# Altium integrated library Texas Instruments Interface Equalizer and Redriver.IntLib: 53 symbols (part 2 of 4)
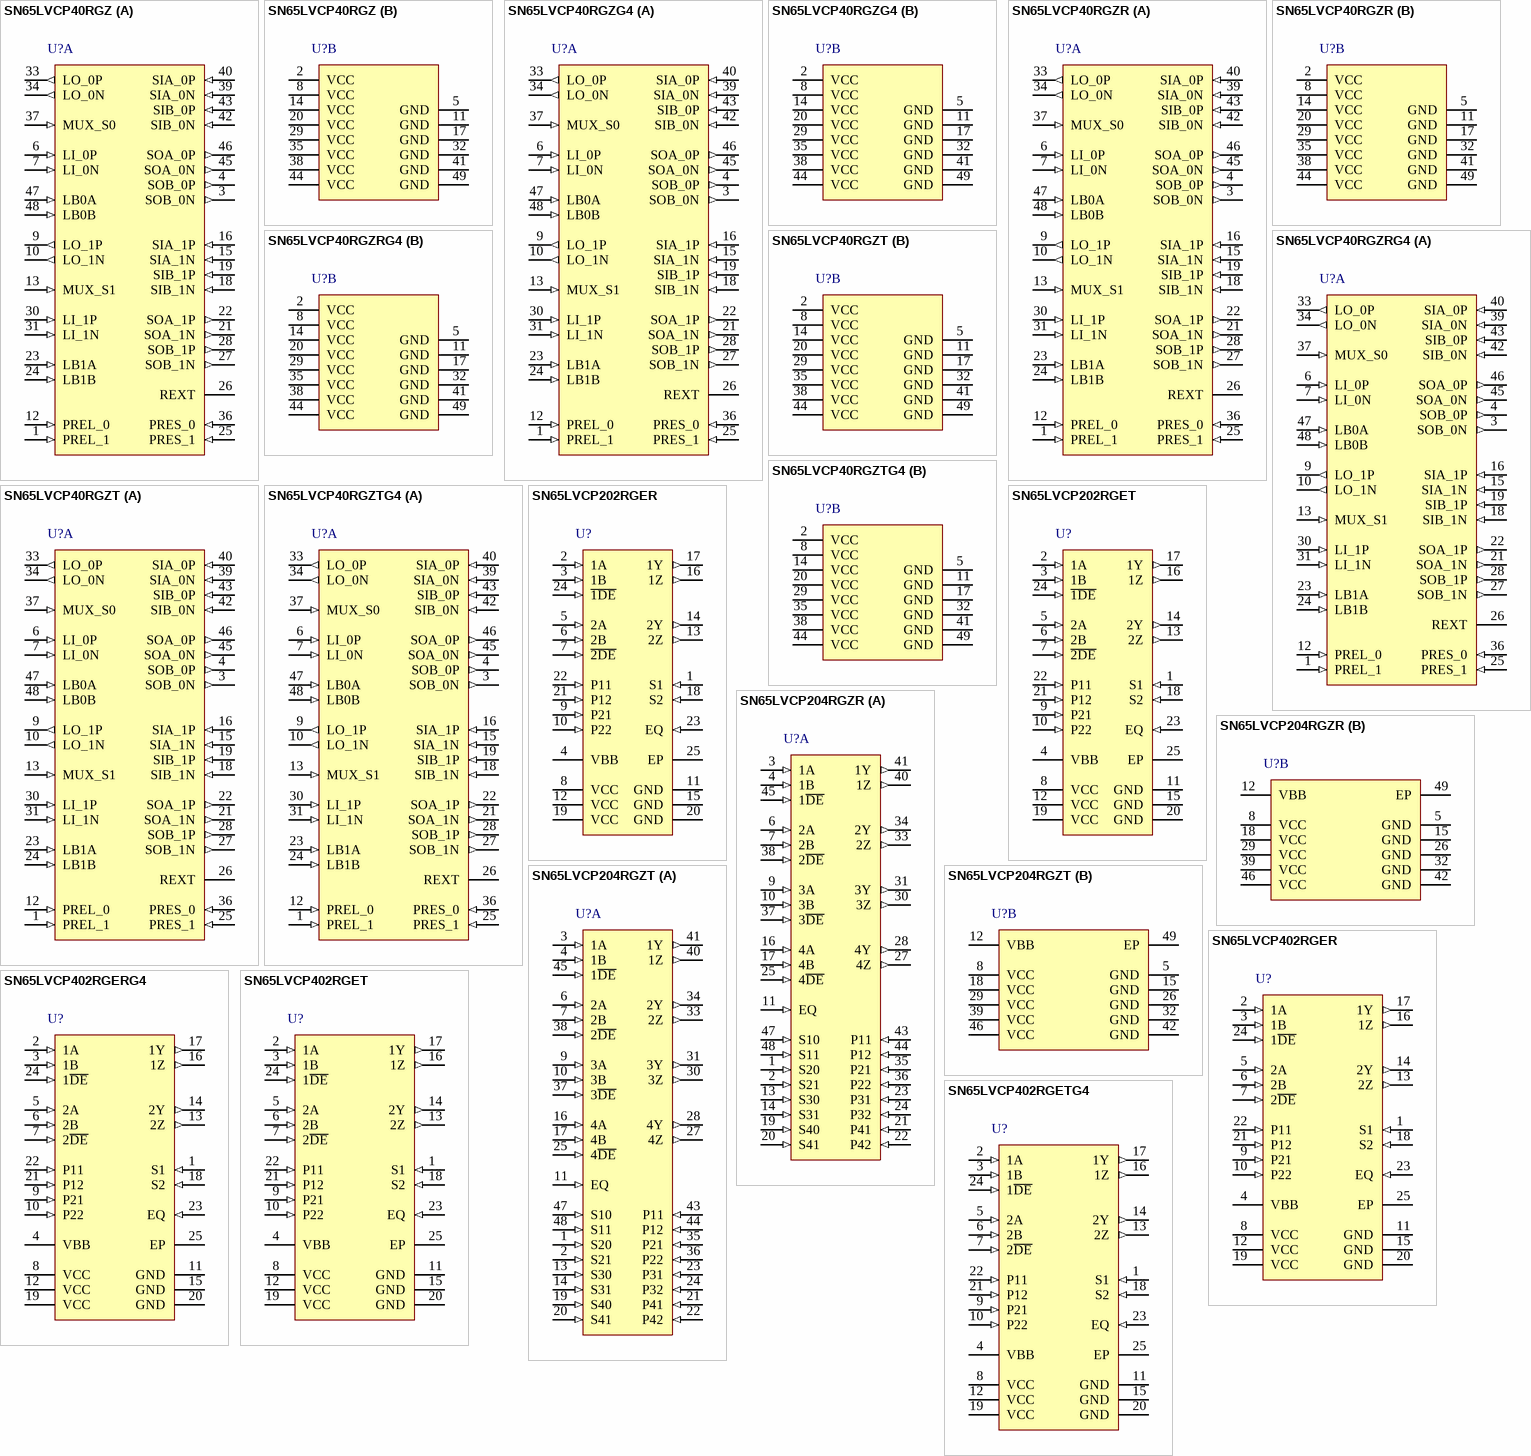
[diagram p3: symbols SN65LVCP40RGZ to SN65LVCP402RGETG4]

## SN65LVCP402RGETG4
designator U?
2 x 2 Gigabit Crosspoint Switch, 2 TX / 2 RX, 3.3V, -40 to 85 degC, 24-Pin VQFN (RGE), Green (RoHS & no Sb/Br); PartNumber: SN65LVCP402RGETG4; Manufacturer: Texas Instruments; ICC(Max)(mA): 110; IN SigCon: EQ; OUT SigCon: Pre-E; ESD HBM(kV): 3; DatasheetVersion: SLLS699A; PackageVersion: revG, Jul-2011; PackageReference: RGE24-2450X2450TP; PackageDescription: 24-Pin Plastic Quad Flatpack No-Lead, 4 x 4 mm Body, 0.5 mm Pitch; Mounting Technology: Surface Mount; Eco-Plan: Green (RoHS & no Sb/Br); Function: Crosspoint; Code_JEDEC: MO-220; ComponentLink1Description: Datasheet; ComponentLink1URL: http://www.ti.com/general/docs/lit/getliterature.tsp?genericPartNumber=SN65LVCP402&fileType=pdf; ComponentLink2Description: Package Specification; ComponentLink2URL: http://www.ti.com/litv/pdf/mpqf124f
footprint RGE24-2450X2450TP (QFN, 24-Leads, Body 4x4mm, Pitch 0.5mm, Thermal Pad 2.45x2.45mm, TI Recommended)
pins: 1 S1 (in) "Switching Selection; LVTTL", 2 1A (in) "Line Side Differential Inputs CML compatible", 3 1B (in) "Line Side Differential Inputs CML compatible", 4 VBB (power) "Receiver input biasing voltage.For ac coupling, VBB should be left floating for optimal bias value. For dc coupling, VBB can driven to change the common mode. [see datasheet]", 5 2A (in) "Line Side Differential Inputs CML compatible", 6 2B (in) "Line Side Differential Inputs CML compatible", 7 2~{DE} (in) "Data Enable; Active Low; LVTTL;When not enabled the output is in 3-STATE mode for power savings", 8 VCC (power) "Power Supply 3.3 V +/-5%", 9 P21 (in) "Output Preemphasis Control; LVTTL", 10 P22 (in) "Output Preemphasis Control; LVTTL", 11 GND (power) "ground", 12 VCC (power) "Power Supply 3.3 V +/-5%", 13 2Z (out) "Switch Side Differential Outputs. VML", 14 2Y (out) "Switch Side Differential Outputs. VML", 15 GND (power) "ground", 16 1Z (out) "Switch Side Differential Outputs. VML", 17 1Y (out) "Switch Side Differential Outputs. VML", 18 S2 (in) "Switching Selection; LVTTL", 19 VCC (power) "Power Supply 3.3 V +/-5%", 20 GND (power) "ground", 21 P12 (in) "Output Preemphasis Control; LVTTL", 22 P11 (in) "Output Preemphasis Control; LVTTL", 23 EQ (in) "EQ=1(default) is for the 5 dB setting; EQ=0 is for the 12 dB setting", 24 1~{DE} (in) "Data Enable; Active Low; LVTTL;When not enabled the output is in 3-STATE mode for power savings", 25 EP (power) "The ground center pad of the package must be connected to  Thermal Pad Thermal Pad  GND plane with thermal vias."

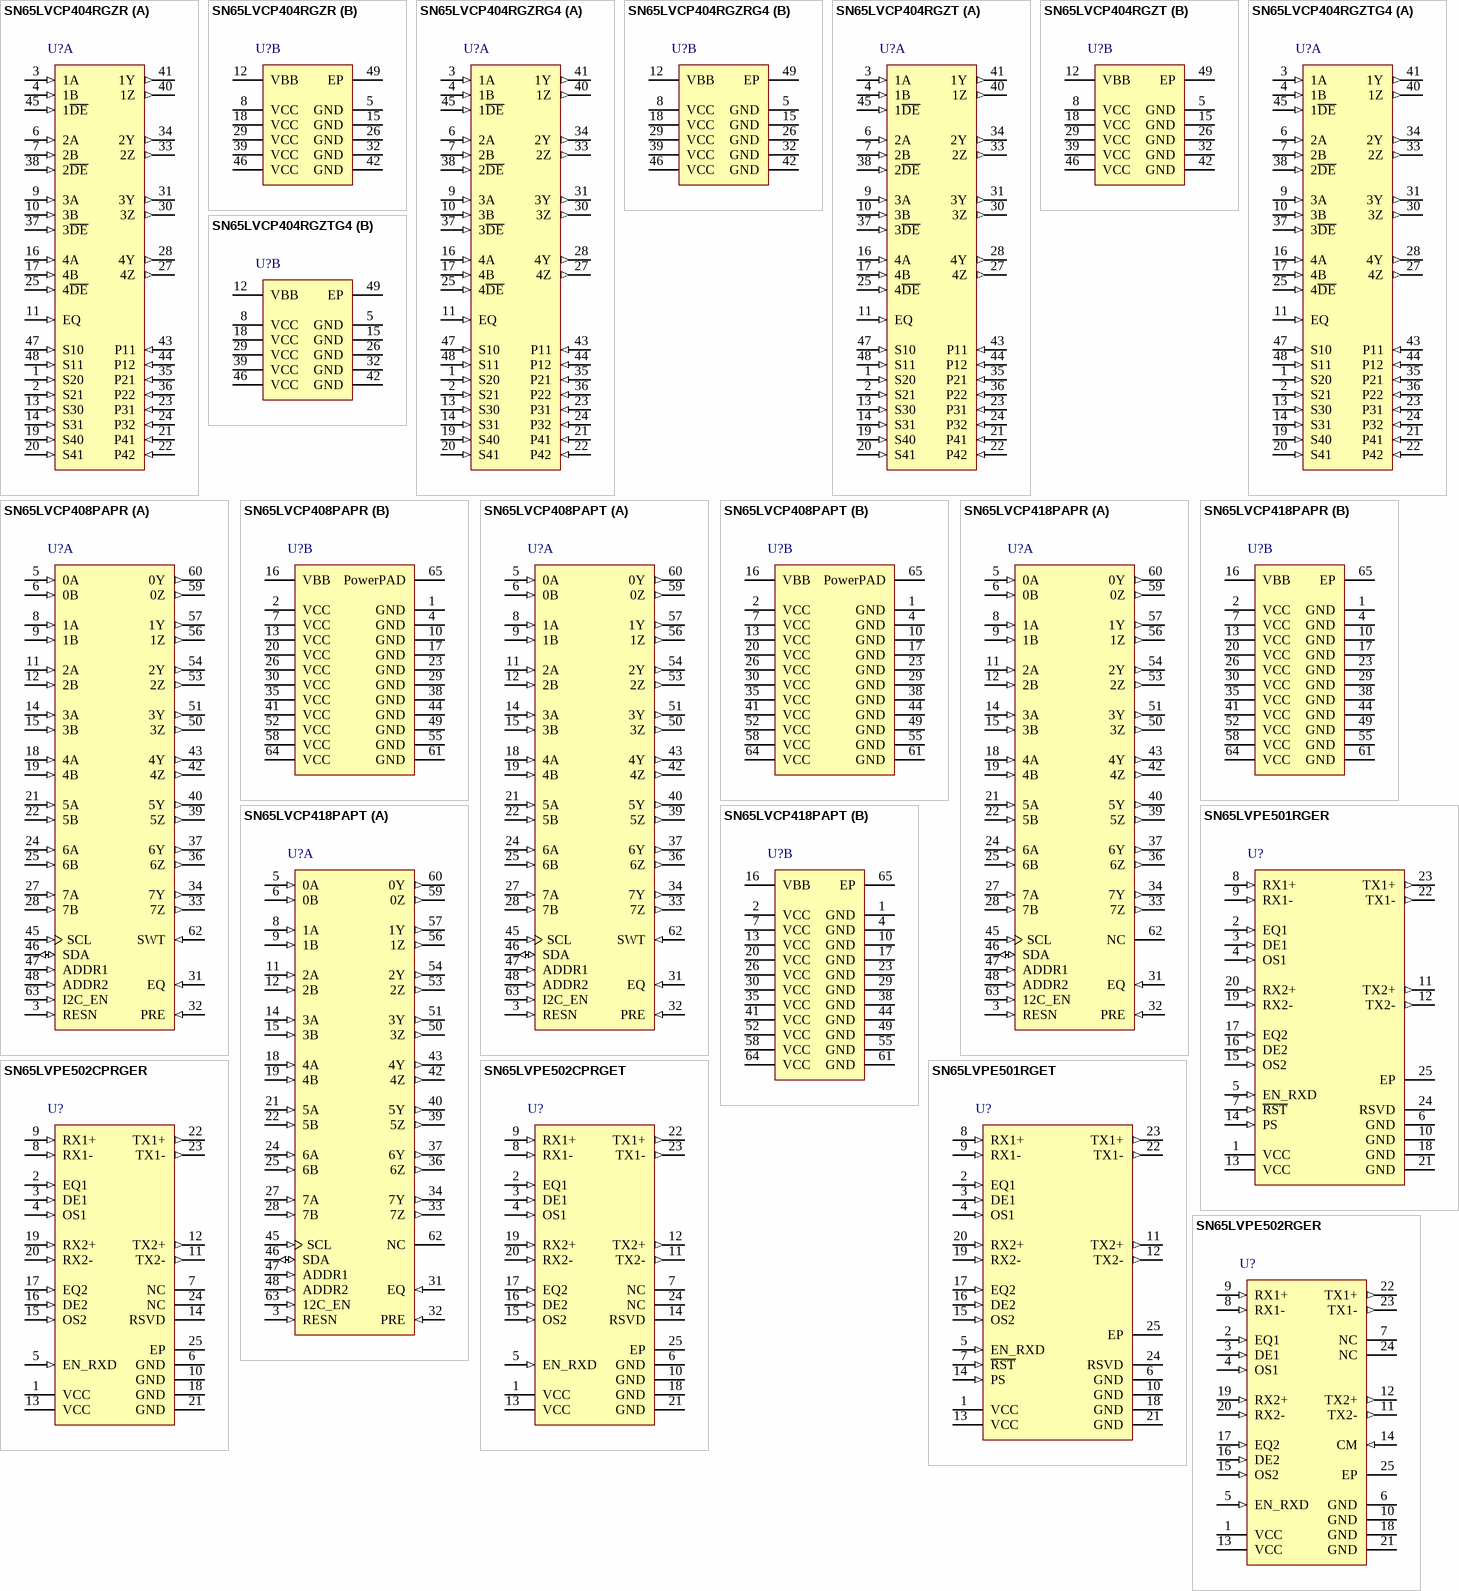
[diagram p1: symbols SN65LVCP404RGZR to SN65LVPE502RGER]

## SN65LVCP404RGZR
designator U?
4 x 4 LVDS Crosspoint Switch, -40 to 85 degC, 48-Pin VQFN (RGZ), Green (RoHS & no Sb/Br); PartNumber: SN65LVCP404RGZR; Manufacturer: Texas Instruments; ICC(Max)(mA): 220; IN SigCon: EQ; OUT SigCon: Pre-E; ESD HBM(kV): 3; DatasheetVersion: SLLS913; PackageVersion: revF, Jun-2011; PackageReference: RGZ48-4100X4100TP; PackageDescription: 48-Pin Plastic Quad Flatpack No-Lead, 7 x 7 mm Body, 0.5 mm Pitch; Mounting Technology: Surface Mount; Eco-Plan: Green (RoHS & no Sb/Br); Function: Crosspoint; Code_JEDEC: MO-220; ComponentLink1Description: Datasheet; ComponentLink1URL: http://www.ti.com/general/docs/lit/getliterature.tsp?genericPartNumber=SN65LVCP404&fileType=pdf; ComponentLink2Description: Package Specification; ComponentLink2URL: http://www.ti.com/lit/ml/mpqf123e/mpqf123e.pdf
footprint RGZ48-4100X4100TP (QFN, 48-Leads, Body 7x7mm, Pitch 0.5mm, Thermal Pad 5.15x5.15mm, TI Recommended)
part A pins: 1 S20 (in) "Switching Selection; LVTTL", 2 S21 (in) "Switching Selection; LVTTL", 3 1A (in) "Line Side Differential Inputs CML compatible", 4 1B (in) "Line Side Differential Inputs CML compatible", 6 2A (in) "Line Side Differential Inputs CML compatible", 7 2B (in) "Line Side Differential Inputs CML compatible", 9 3A (in) "Line Side Differential Inputs CML compatible", 10 3B (in) "Line Side Differential Inputs CML compatible", 11 EQ (in) "EQ = 1 (default) is for the 5 dB setting, EQ = 0 is for the 12 dB setting", 13 S30 (in) "Switching Selection; LVTTL", 14 S31 (in) "Switching Selection; LVTTL", 16 4A (in) "Line Side Differential Inputs CML compatible", 17 4B (in) "Line Side Differential Inputs CML compatible", 19 S40 (in) "Switching Selection; LVTTL", 20 S41 (in) "Switching Selection; LVTTL", 21 P41 (in) "Output Preemphasis Control; LVTTL", 22 P42 (in) "Output Preemphasis Control; LVTTL", 23 P31 (in) "Output Preemphasis Control; LVTTL", 24 P32 (in) "Output Preemphasis Control; LVTTL", 25 4~{DE} (in) "Data Enable; Active Low; LVTTL; When not enabled the ouput is in 3-STATE mode for power savings", 27 4Z (out) "Switch Side Differential Outputs. VML", 28 4Y (out) "Switch Side Differential Outputs. VML", 30 3Z (out) "Switch Side Differential Outputs. VML", 31 3Y (out) "Switch Side Differential Outputs. VML", 33 2Z (out) "Switch Side Differential Outputs. VML", 34 2Y (out) "Switch Side Differential Outputs. VML", 35 P21 (in) "Output Preemphasis Control; LVTTL", 36 P22 (in) "Output Preemphasis Control; LVTTL", 37 3~{DE} (in) "Data Enable; Active Low; LVTTL; When not enabled the ouput is in 3-STATE mode for power savings", 38 2~{DE} (in) "Data Enable; Active Low; LVTTL; When not enabled the ouput is in 3-STATE mode for power savings", 40 1Z (out) "Switch Side Differential Outputs. VML", 41 1Y (out) "Switch Side Differential Outputs. VML", 43 P11 (in) "Output Preemphasis Control; LVTTL", 44 P12 (in) "Output Preemphasis Control; LVTTL", 45 1~{DE} (in) "Data Enable; Active Low; LVTTL; When not enabled the ouput is in 3-STATE mode for power savings", 47 S10 (in) "Switching Selection; LVTTL", 48 S11 (in) "Switching Selection; LVTTL"
part B pins: 5 GND (power) "Ground", 8 VCC (power) "Power Supply 3.3v +/-5%", 12 VBB (power) "Receiver input biasing voltage. For ac coupling, VBB should be left floating for optimal bias value. For dc coupling, VBB can driven to change the common mode. [see datasheet]", 15 GND (power) "Ground", 18 VCC (power) "Power Supply 3.3v +/-5%", 26 GND (power) "Ground", 29 VCC (power) "Power Supply 3.3v +/-5%", 32 GND (power) "Ground", 39 VCC (power) "Power Supply 3.3v +/-5%", 42 GND (power) "Ground", 46 VCC (power) "Power Supply 3.3v +/-5%", 49 EP (power) "The ground center pad of the package must be connected to GND plane."

## SN65LVCP404RGZRG4
designator U?
4 x 4 LVDS Crosspoint Switch, -40 to 85 degC, 48-Pin VQFN (RGZ), Green (RoHS & no Sb/Br); PartNumber: SN65LVCP404RGZRG4; Manufacturer: Texas Instruments; ICC(Max)(mA): 220; IN SigCon: EQ; OUT SigCon: Pre-E; ESD HBM(kV): 3; DatasheetVersion: SLLS913; PackageVersion: revF, Jun-2011; PackageReference: RGZ48-4100X4100TP; PackageDescription: 48-Pin Plastic Quad Flatpack No-Lead, 7 x 7 mm Body, 0.5 mm Pitch; Mounting Technology: Surface Mount; Eco-Plan: Green (RoHS & no Sb/Br); Function: Crosspoint; Code_JEDEC: MO-220; ComponentLink1Description: Datasheet; ComponentLink1URL: http://www.ti.com/general/docs/lit/getliterature.tsp?genericPartNumber=SN65LVCP404&fileType=pdf; ComponentLink2Description: Package Specification; ComponentLink2URL: http://www.ti.com/lit/ml/mpqf123e/mpqf123e.pdf
footprint RGZ48-4100X4100TP (QFN, 48-Leads, Body 7x7mm, Pitch 0.5mm, Thermal Pad 5.15x5.15mm, TI Recommended)
part A pins: 1 S20 (in) "Switching Selection; LVTTL", 2 S21 (in) "Switching Selection; LVTTL", 3 1A (in) "Line Side Differential Inputs CML compatible", 4 1B (in) "Line Side Differential Inputs CML compatible", 6 2A (in) "Line Side Differential Inputs CML compatible", 7 2B (in) "Line Side Differential Inputs CML compatible", 9 3A (in) "Line Side Differential Inputs CML compatible", 10 3B (in) "Line Side Differential Inputs CML compatible", 11 EQ (in) "EQ = 1 (default) is for the 5 dB setting, EQ = 0 is for the 12 dB setting", 13 S30 (in) "Switching Selection; LVTTL", 14 S31 (in) "Switching Selection; LVTTL", 16 4A (in) "Line Side Differential Inputs CML compatible", 17 4B (in) "Line Side Differential Inputs CML compatible", 19 S40 (in) "Switching Selection; LVTTL", 20 S41 (in) "Switching Selection; LVTTL", 21 P41 (in) "Output Preemphasis Control; LVTTL", 22 P42 (in) "Output Preemphasis Control; LVTTL", 23 P31 (in) "Output Preemphasis Control; LVTTL", 24 P32 (in) "Output Preemphasis Control; LVTTL", 25 4~{DE} (in) "Data Enable; Active Low; LVTTL; When not enabled the ouput is in 3-STATE mode for power savings", 27 4Z (out) "Switch Side Differential Outputs. VML", 28 4Y (out) "Switch Side Differential Outputs. VML", 30 3Z (out) "Switch Side Differential Outputs. VML", 31 3Y (out) "Switch Side Differential Outputs. VML", 33 2Z (out) "Switch Side Differential Outputs. VML", 34 2Y (out) "Switch Side Differential Outputs. VML", 35 P21 (in) "Output Preemphasis Control; LVTTL", 36 P22 (in) "Output Preemphasis Control; LVTTL", 37 3~{DE} (in) "Data Enable; Active Low; LVTTL; When not enabled the ouput is in 3-STATE mode for power savings", 38 2~{DE} (in) "Data Enable; Active Low; LVTTL; When not enabled the ouput is in 3-STATE mode for power savings", 40 1Z (out) "Switch Side Differential Outputs. VML", 41 1Y (out) "Switch Side Differential Outputs. VML", 43 P11 (in) "Output Preemphasis Control; LVTTL", 44 P12 (in) "Output Preemphasis Control; LVTTL", 45 1~{DE} (in) "Data Enable; Active Low; LVTTL; When not enabled the ouput is in 3-STATE mode for power savings", 47 S10 (in) "Switching Selection; LVTTL", 48 S11 (in) "Switching Selection; LVTTL"
part B pins: 5 GND (power) "Ground", 8 VCC (power) "Power Supply 3.3v +/-5%", 12 VBB (power) "Receiver input biasing voltage. For ac coupling, VBB should be left floating for optimal bias value. For dc coupling, VBB can driven to change the common mode. [see datasheet]", 15 GND (power) "Ground", 18 VCC (power) "Power Supply 3.3v +/-5%", 26 GND (power) "Ground", 29 VCC (power) "Power Supply 3.3v +/-5%", 32 GND (power) "Ground", 39 VCC (power) "Power Supply 3.3v +/-5%", 42 GND (power) "Ground", 46 VCC (power) "Power Supply 3.3v +/-5%", 49 EP (power) "The ground center pad of the package must be connected to GND plane."

## SN65LVCP404RGZT
designator U?
Gigabit 4 x 4 Crosspoint Switch, -40 to 85 degC, 48-Pin VQFN (RGZ), Green (RoHS & no Sb/Br); PartNumber: SN65LVCP404RGZT; Manufacturer: Texas Instruments; ICC(Max)(mA): 220; IN SigCon: EQ; OUT SigCon: Pre-E; ESD HBM(kV): 3; DatasheetVersion: SLLS913; PackageVersion: revF, Jun-2011; PackageReference: RGZ48-4100X4100TP; PackageDescription: 48-Pin Plastic Quad Flatpack No-Lead, 7 x 7 mm Body, 0.5 mm Pitch; Mounting Technology: Surface Mount; Eco-Plan: Green (RoHS & no Sb/Br); Function: Crosspoint; Code_JEDEC: MO-220; ComponentLink1Description: Datasheet; ComponentLink1URL: http://www.ti.com/general/docs/lit/getliterature.tsp?genericPartNumber=SN65LVCP404&fileType=pdf; ComponentLink2Description: Package Specification; ComponentLink2URL: http://www.ti.com/lit/ml/mpqf123e/mpqf123e.pdf
footprint RGZ48-4100X4100TP (QFN, 48-Leads, Body 7x7mm, Pitch 0.5mm, Thermal Pad 5.15x5.15mm, TI Recommended)
part A pins: 1 S20 (in) "Switching Selection; LVTTL", 2 S21 (in) "Switching Selection; LVTTL", 3 1A (in) "Line Side Differential Inputs CML compatible", 4 1B (in) "Line Side Differential Inputs CML compatible", 6 2A (in) "Line Side Differential Inputs CML compatible", 7 2B (in) "Line Side Differential Inputs CML compatible", 9 3A (in) "Line Side Differential Inputs CML compatible", 10 3B (in) "Line Side Differential Inputs CML compatible", 11 EQ (in) "EQ = 1 (default) is for the 5 dB setting, EQ = 0 is for the 12 dB setting", 13 S30 (in) "Switching Selection; LVTTL", 14 S31 (in) "Switching Selection; LVTTL", 16 4A (in) "Line Side Differential Inputs CML compatible", 17 4B (in) "Line Side Differential Inputs CML compatible", 19 S40 (in) "Switching Selection; LVTTL", 20 S41 (in) "Switching Selection; LVTTL", 21 P41 (in) "Output Preemphasis Control; LVTTL", 22 P42 (in) "Output Preemphasis Control; LVTTL", 23 P31 (in) "Output Preemphasis Control; LVTTL", 24 P32 (in) "Output Preemphasis Control; LVTTL", 25 4~{DE} (in) "Data Enable; Active Low; LVTTL; When not enabled the ouput is in 3-STATE mode for power savings", 27 4Z (out) "Switch Side Differential Outputs. VML", 28 4Y (out) "Switch Side Differential Outputs. VML", 30 3Z (out) "Switch Side Differential Outputs. VML", 31 3Y (out) "Switch Side Differential Outputs. VML", 33 2Z (out) "Switch Side Differential Outputs. VML", 34 2Y (out) "Switch Side Differential Outputs. VML", 35 P21 (in) "Output Preemphasis Control; LVTTL", 36 P22 (in) "Output Preemphasis Control; LVTTL", 37 3~{DE} (in) "Data Enable; Active Low; LVTTL; When not enabled the ouput is in 3-STATE mode for power savings", 38 2~{DE} (in) "Data Enable; Active Low; LVTTL; When not enabled the ouput is in 3-STATE mode for power savings", 40 1Z (out) "Switch Side Differential Outputs. VML", 41 1Y (out) "Switch Side Differential Outputs. VML", 43 P11 (in) "Output Preemphasis Control; LVTTL", 44 P12 (in) "Output Preemphasis Control; LVTTL", 45 1~{DE} (in) "Data Enable; Active Low; LVTTL; When not enabled the ouput is in 3-STATE mode for power savings", 47 S10 (in) "Switching Selection; LVTTL", 48 S11 (in) "Switching Selection; LVTTL"
part B pins: 5 GND (power) "Ground", 8 VCC (power) "Power Supply 3.3v +/-5%", 12 VBB (power) "Receiver input biasing voltage. For ac coupling, VBB should be left floating for optimal bias value. For dc coupling, VBB can driven to change the common mode. [see datasheet]", 15 GND (power) "Ground", 18 VCC (power) "Power Supply 3.3v +/-5%", 26 GND (power) "Ground", 29 VCC (power) "Power Supply 3.3v +/-5%", 32 GND (power) "Ground", 39 VCC (power) "Power Supply 3.3v +/-5%", 42 GND (power) "Ground", 46 VCC (power) "Power Supply 3.3v +/-5%", 49 EP (power) "The ground center pad of the package must be connected to GND plane."

## SN65LVCP404RGZTG4
designator U?
Gigabit 4 x 4 Crosspoint Switch, -40 to 85 degC, 48-Pin VQFN (RGZ), Green (RoHS & no Sb/Br); PartNumber: SN65LVCP404RGZTG4; Manufacturer: Texas Instruments; ICC(Max)(mA): 220; IN SigCon: EQ; OUT SigCon: Pre-E; ESD HBM(kV): 3; DatasheetVersion: SLLS913; PackageVersion: revF, Jun-2011; PackageReference: RGZ48-4100X4100TP; PackageDescription: 48-Pin Plastic Quad Flatpack No-Lead, 7 x 7 mm Body, 0.5 mm Pitch; Mounting Technology: Surface Mount; Eco-Plan: Green (RoHS & no Sb/Br); Function: Crosspoint; Code_JEDEC: MO-220; ComponentLink1Description: Datasheet; ComponentLink1URL: http://www.ti.com/general/docs/lit/getliterature.tsp?genericPartNumber=SN65LVCP404&fileType=pdf; ComponentLink2Description: Package Specification; ComponentLink2URL: http://www.ti.com/lit/ml/mpqf123e/mpqf123e.pdf
footprint RGZ48-4100X4100TP (QFN, 48-Leads, Body 7x7mm, Pitch 0.5mm, Thermal Pad 5.15x5.15mm, TI Recommended)
part A pins: 1 S20 (in) "Switching Selection; LVTTL", 2 S21 (in) "Switching Selection; LVTTL", 3 1A (in) "Line Side Differential Inputs CML compatible", 4 1B (in) "Line Side Differential Inputs CML compatible", 6 2A (in) "Line Side Differential Inputs CML compatible", 7 2B (in) "Line Side Differential Inputs CML compatible", 9 3A (in) "Line Side Differential Inputs CML compatible", 10 3B (in) "Line Side Differential Inputs CML compatible", 11 EQ (in) "EQ = 1 (default) is for the 5 dB setting, EQ = 0 is for the 12 dB setting", 13 S30 (in) "Switching Selection; LVTTL", 14 S31 (in) "Switching Selection; LVTTL", 16 4A (in) "Line Side Differential Inputs CML compatible", 17 4B (in) "Line Side Differential Inputs CML compatible", 19 S40 (in) "Switching Selection; LVTTL", 20 S41 (in) "Switching Selection; LVTTL", 21 P41 (in) "Output Preemphasis Control; LVTTL", 22 P42 (in) "Output Preemphasis Control; LVTTL", 23 P31 (in) "Output Preemphasis Control; LVTTL", 24 P32 (in) "Output Preemphasis Control; LVTTL", 25 4~{DE} (in) "Data Enable; Active Low; LVTTL; When not enabled the ouput is in 3-STATE mode for power savings", 27 4Z (out) "Switch Side Differential Outputs. VML", 28 4Y (out) "Switch Side Differential Outputs. VML", 30 3Z (out) "Switch Side Differential Outputs. VML", 31 3Y (out) "Switch Side Differential Outputs. VML", 33 2Z (out) "Switch Side Differential Outputs. VML", 34 2Y (out) "Switch Side Differential Outputs. VML", 35 P21 (in) "Output Preemphasis Control; LVTTL", 36 P22 (in) "Output Preemphasis Control; LVTTL", 37 3~{DE} (in) "Data Enable; Active Low; LVTTL; When not enabled the ouput is in 3-STATE mode for power savings", 38 2~{DE} (in) "Data Enable; Active Low; LVTTL; When not enabled the ouput is in 3-STATE mode for power savings", 40 1Z (out) "Switch Side Differential Outputs. VML", 41 1Y (out) "Switch Side Differential Outputs. VML", 43 P11 (in) "Output Preemphasis Control; LVTTL", 44 P12 (in) "Output Preemphasis Control; LVTTL", 45 1~{DE} (in) "Data Enable; Active Low; LVTTL; When not enabled the ouput is in 3-STATE mode for power savings", 47 S10 (in) "Switching Selection; LVTTL", 48 S11 (in) "Switching Selection; LVTTL"
part B pins: 5 GND (power) "Ground", 8 VCC (power) "Power Supply 3.3v +/-5%", 12 VBB (power) "Receiver input biasing voltage. For ac coupling, VBB should be left floating for optimal bias value. For dc coupling, VBB can driven to change the common mode. [see datasheet]", 15 GND (power) "Ground", 18 VCC (power) "Power Supply 3.3v +/-5%", 26 GND (power) "Ground", 29 VCC (power) "Power Supply 3.3v +/-5%", 32 GND (power) "Ground", 39 VCC (power) "Power Supply 3.3v +/-5%", 42 GND (power) "Ground", 46 VCC (power) "Power Supply 3.3v +/-5%", 49 EP (power) "The ground center pad of the package must be connected to GND plane."

## SN65LVCP408PAPR
designator U?
8 x 8 4.25Gbps Crosspoint Swtich, 8 TX / 8 RX, 3.3V, -40 to 85 degC, 64-Pin HTQFP (PAP), Green (RoHS & no Sb/Br); PartNumber: SN65LVCP408PAPR; Manufacturer: Texas Instruments; ICC(Max)(mA): 440; IN SigCon: EQ; OUT SigCon: Pre-E; ESD HBM(kV): 3; DatasheetVersion: SLLS842A; PackageVersion: revC, Aug-2003; PackageReference: PAP64-4650X4650TP; PackageDescription: 64-Pin Plastic Quad Flat Pack, 10 x 10 mm Body, 0.5 mm Pitch, Exposed Pad; Mounting Technology: Surface Mount; Eco-Plan: Green (RoHS & no Sb/Br); Function: Crosspoint; Code_JEDEC: MS-026; ComponentLink1Description: Datasheet; ComponentLink1URL: http://www.ti.com/general/docs/lit/getliterature.tsp?genericPartNumber=SN65LVCP408&fileType=pdf; ComponentLink2Description: Package Specification; ComponentLink2URL: http://www.ti.com/litv/pdf/mpqf071b
footprint PAP64-4650X4650TP_N (Thin QFP, 64-Leads, Body 10x10mm, Pitch 0.5mm, Thermal Pad 5x5mm, IPC Medium Density)
footprint PAP64-4650X4650TP_L (Thin QFP, 64-Leads, Body 10x10mm, Pitch 0.5mm, Thermal Pad 5x5mm, IPC High Density)
footprint PAP64-4650X4650TP_M (Thin QFP, 64-Leads, Body 10x10mm, Pitch 0.5mm, Thermal Pad 5x5mm, IPC Low Density)
part A pins: 3 RESN (in) "Configuration Reset. Resets I2C register space (Active Low). Note upon device startup the RESN pin must be driven low to reset the device registers.", 5 0A (in) "Line Side Differential Inputs CML compatible", 6 0B (in) "Line Side Differential Inputs CML compatible", 8 1A (in) "Line Side Differential Inputs CML compatible", 9 1B (in) "Line Side Differential Inputs CML compatible", 11 2A (in) "Line Side Differential Inputs CML compatible", 12 2B (in) "Line Side Differential Inputs CML compatible", 14 3A (in) "Line Side Differential Inputs CML compatible", 15 3B (in) "Line Side Differential Inputs CML compatible", 18 4A (in) "Line Side Differential Inputs CML compatible", 19 4B (in) "Line Side Differential Inputs CML compatible", 21 5A (in) "Line Side Differential Inputs CML compatible", 22 5B (in) "Line Side Differential Inputs CML compatible", 24 6A (in) "Line Side Differential Inputs CML compatible", 25 6B (in) "Line Side Differential Inputs CML compatible", 27 7A (in) "Line Side Differential Inputs CML compatible", 28 7B (in) "Line Side Differential Inputs CML compatible", 31 EQ (in) "Equalization setting when I2C is not enabled. EQ=0 for 13dB and setting EQ=1 for 9dB.", 32 PRE (in) "Pre-Emphasis setting when I2C is not enabled. PRE=0 for 0dB and setting PRE=1 for 6dB.", 33 7Z (out) "Switch Side Differential Outputs. VML", 34 7Y (out) "Switch Side Differential Outputs. VML", 36 6Z (out) "Switch Side Differential Outputs. VML", 37 6Y (out) "Switch Side Differential Outputs. VML", 39 5Z (out) "Switch Side Differential Outputs. VML", 40 5Y (out) "Switch Side Differential Outputs. VML", 42 4Z (out) "Switch Side Differential Outputs. VML", 43 4Y (out) "Switch Side Differential Outputs. VML", 45 SCL (in) "I2C Control Interface (SCL: Clock, SDA: Data, ADDR: Address)", 46 SDA (io) "I2C Control Interface (SCL: Clock, SDA: Data, ADDR: Address)", 47 ADDR1 (in) "I2C Control Interface (SCL: Clock, SDA: Data, ADDR: Address)", 48 ADDR2 (in) "I2C Control Interface (SCL: Clock, SDA: Data, ADDR: Address)", 50 3Z (out) "Switch Side Differential Outputs. VML", 51 3Y (out) "Switch Side Differential Outputs. VML", 53 2Z (out) "Switch Side Differential Outputs. VML", 54 2Y (out) "Switch Side Differential Outputs. VML", 56 1Z (out) "Switch Side Differential Outputs. VML", 57 1Y (out) "Switch Side Differential Outputs. VML", 59 0Z (out) "Switch Side Differential Outputs. VML", 60 0Y (out) "Switch Side Differential Outputs. VML", 62 SWT (in) "Enable switch event when toggled", 63 I2C_EN (in) "Enables I2C control interface I2C_EN=1 for enable; When EN=0 then the PRE and EQ pins are used to set the Pre-Emphasis and Equalization settings rather than the I2C register map. [see datasheet]"
part B pins: 1 GND (power) "ground", 2 VCC (power) "Power Supply 3.3v+/-5%", 4 GND (power) "Ground", 7 VCC (power) "Power Supply 3.3v+/-5%", 10 GND (power) "Ground", 13 VCC (power) "Power Supply 3.3v+/-5%", 16 VBB (power) "Receiver input biasing voltage", 17 GND (power) "Ground", 20 VCC (power) "Power Supply 3.3v+/-5%", 23 GND (power) "Ground", 26 VCC (power) "Power Supply 3.3v+/-5%", 29 GND (power) "Ground", 30 VCC (power) "Power Supply 3.3v+/-5%", 35 VCC (power) "Power Supply 3.3v+/-5%", 38 GND (power) "Ground", 41 VCC (power) "Power Supply 3.3v+/-5%", 44 GND (power) "Ground", 49 GND (power) "Ground", 52 VCC (power) "Power Supply 3.3v+/-5%", 55 GND (power) "Ground", 58 VCC (power) "Power Supply 3.3v+/-5%", 61 GND (power) "Ground", 64 VCC (power) "Power Supply 3.3v+/-5%", 65 PowerPAD (power) "The ground center pad of the package must be connected to GND plane."

## SN65LVCP408PAPT
designator U?
8 x 8 4.25Gbps Crosspoint Swtich, 8 TX / 8 RX, 3.3V, -40 to 85 degC, 64-Pin HTQFP (PAP), Green (RoHS & no Sb/Br); PartNumber: SN65LVCP408PAPT; Manufacturer: Texas Instruments; ICC(Max)(mA): 440; IN SigCon: EQ; OUT SigCon: Pre-E; ESD HBM(kV): 3; DatasheetVersion: SLLS842A; PackageVersion: revC, Aug-2003; PackageReference: PAP64-4650X4650TP; PackageDescription: 64-Pin Plastic Quad Flat Pack, 10 x 10 mm Body, 0.5 mm Pitch, Exposed Pad; Mounting Technology: Surface Mount; Eco-Plan: Green (RoHS & no Sb/Br); Function: Crosspoint; Code_JEDEC: MS-026; ComponentLink1Description: Datasheet; ComponentLink1URL: http://www.ti.com/general/docs/lit/getliterature.tsp?genericPartNumber=SN65LVCP408&fileType=pdf; ComponentLink2Description: Package Specification; ComponentLink2URL: http://www.ti.com/litv/pdf/mpqf071b
footprint PAP64-4650X4650TP_N (Thin QFP, 64-Leads, Body 10x10mm, Pitch 0.5mm, Thermal Pad 5x5mm, IPC Medium Density)
footprint PAP64-4650X4650TP_L (Thin QFP, 64-Leads, Body 10x10mm, Pitch 0.5mm, Thermal Pad 5x5mm, IPC High Density)
footprint PAP64-4650X4650TP_M (Thin QFP, 64-Leads, Body 10x10mm, Pitch 0.5mm, Thermal Pad 5x5mm, IPC Low Density)
part A pins: 3 RESN (in) "Configuration Reset. Resets I2C register space (Active Low). Note upon device startup the RESN pin must be driven low to reset the device registers.", 5 0A (in) "Line Side Differential Inputs CML compatible", 6 0B (in) "Line Side Differential Inputs CML compatible", 8 1A (in) "Line Side Differential Inputs CML compatible", 9 1B (in) "Line Side Differential Inputs CML compatible", 11 2A (in) "Line Side Differential Inputs CML compatible", 12 2B (in) "Line Side Differential Inputs CML compatible", 14 3A (in) "Line Side Differential Inputs CML compatible", 15 3B (in) "Line Side Differential Inputs CML compatible", 18 4A (in) "Line Side Differential Inputs CML compatible", 19 4B (in) "Line Side Differential Inputs CML compatible", 21 5A (in) "Line Side Differential Inputs CML compatible", 22 5B (in) "Line Side Differential Inputs CML compatible", 24 6A (in) "Line Side Differential Inputs CML compatible", 25 6B (in) "Line Side Differential Inputs CML compatible", 27 7A (in) "Line Side Differential Inputs CML compatible", 28 7B (in) "Line Side Differential Inputs CML compatible", 31 EQ (in) "Equalization setting when I2C is not enabled. EQ=0 for 13dB and setting EQ=1 for 9dB.", 32 PRE (in) "Pre-Emphasis setting when I2C is not enabled. PRE=0 for 0dB and setting PRE=1 for 6dB.", 33 7Z (out) "Switch Side Differential Outputs. VML", 34 7Y (out) "Switch Side Differential Outputs. VML", 36 6Z (out) "Switch Side Differential Outputs. VML", 37 6Y (out) "Switch Side Differential Outputs. VML", 39 5Z (out) "Switch Side Differential Outputs. VML", 40 5Y (out) "Switch Side Differential Outputs. VML", 42 4Z (out) "Switch Side Differential Outputs. VML", 43 4Y (out) "Switch Side Differential Outputs. VML", 45 SCL (in) "I2C Control Interface (SCL: Clock, SDA: Data, ADDR: Address)", 46 SDA (io) "I2C Control Interface (SCL: Clock, SDA: Data, ADDR: Address)", 47 ADDR1 (in) "I2C Control Interface (SCL: Clock, SDA: Data, ADDR: Address)", 48 ADDR2 (in) "I2C Control Interface (SCL: Clock, SDA: Data, ADDR: Address)", 50 3Z (out) "Switch Side Differential Outputs. VML", 51 3Y (out) "Switch Side Differential Outputs. VML", 53 2Z (out) "Switch Side Differential Outputs. VML", 54 2Y (out) "Switch Side Differential Outputs. VML", 56 1Z (out) "Switch Side Differential Outputs. VML", 57 1Y (out) "Switch Side Differential Outputs. VML", 59 0Z (out) "Switch Side Differential Outputs. VML", 60 0Y (out) "Switch Side Differential Outputs. VML", 62 SWT (in) "Enable switch event when toggled", 63 I2C_EN (in) "Enables I2C control interface I2C_EN=1 for enable; When EN=0 then the PRE and EQ pins are used to set the Pre-Emphasis and Equalization settings rather than the I2C register map. [see datasheet]"
part B pins: 1 GND (power) "ground", 2 VCC (power) "Power Supply 3.3v+/-5%", 4 GND (power) "Ground", 7 VCC (power) "Power Supply 3.3v+/-5%", 10 GND (power) "Ground", 13 VCC (power) "Power Supply 3.3v+/-5%", 16 VBB (power) "Receiver input biasing voltage", 17 GND (power) "Ground", 20 VCC (power) "Power Supply 3.3v+/-5%", 23 GND (power) "Ground", 26 VCC (power) "Power Supply 3.3v+/-5%", 29 GND (power) "Ground", 30 VCC (power) "Power Supply 3.3v+/-5%", 35 VCC (power) "Power Supply 3.3v+/-5%", 38 GND (power) "Ground", 41 VCC (power) "Power Supply 3.3v+/-5%", 44 GND (power) "Ground", 49 GND (power) "Ground", 52 VCC (power) "Power Supply 3.3v+/-5%", 55 GND (power) "Ground", 58 VCC (power) "Power Supply 3.3v+/-5%", 61 GND (power) "Ground", 64 VCC (power) "Power Supply 3.3v+/-5%", 65 PowerPAD (power) "The ground center pad of the package must be connected to GND plane."

## SN65LVCP418PAPR
designator U?
8 Channel Gigabit Signal Conditioning Buffer, 4.25 Gbps, 3.3V, -40 to 85 degC, 64-Pin HTQFP (PAP), Green(RoHS & no Sb/Br); PartNumber: SN65LVCP418PAPR; Manufacturer: Texas Instruments; Protocols: XAUI; Speed(Max)(Gbps): 4.25; Number of Channels: 8; SupplyVoltage(Volt): 3.3; ICC(Max)(mA): 380; IN SigCon: EQ; OUT SigCon: Pre-E; Input Compatibility: CML, AC-Coupled, LVPEC; Output Compatibility: VML; ESD HBM(kV): 6; Function: Repeater, Redriver, Equalizer"; DatasheetVersion: SLLS856A; PackageVersion: revC, Aug-2003; PackageReference: PAP64-4650X4650TP; PackageDescription: 64-Pin Plastic Quad Flat Pack, 10 x 10 mm Body, 0.5 mm Pitch, Exposed Pad; Mounting Technology: Surface Mount; Eco-Plan: Green (RoHS & no Sb/Br); Code_JEDEC: MS-026; ComponentLink1Description: Datasheet; ComponentLink1URL: http://www.ti.com/general/docs/lit/getliterature.tsp?genericPartNumber=SN65LVCP418&fileType=pdf; ComponentLink2Description: Package Specification; ComponentLink2URL: http://www.ti.com/litv/pdf/mpqf071b
footprint PAP64-4650X4650TP_N (Thin QFP, 64-Leads, Body 10x10mm, Pitch 0.5mm, Thermal Pad 5x5mm, IPC Medium Density)
footprint PAP64-4650X4650TP_L (Thin QFP, 64-Leads, Body 10x10mm, Pitch 0.5mm, Thermal Pad 5x5mm, IPC High Density)
footprint PAP64-4650X4650TP_M (Thin QFP, 64-Leads, Body 10x10mm, Pitch 0.5mm, Thermal Pad 5x5mm, IPC Low Density)
part A pins: 3 RESN (in) "Configuration Reset. Resets I2C register space; Note upon device startup the RESN pin must be driven low to reset the device registers", 5 0A (in) "Line Side Differential Inputs CML compatibl", 6 0B (in) "Line Side Differential Inputs CML compatibl", 8 1A (in) "Line Side Differential Inputs CML compatibl", 9 1B (in) "Line Side Differential Inputs CML compatibl", 11 2A (in) "Line Side Differential Inputs CML compatibl", 12 2B (in) "Line Side Differential Inputs CML compatibl", 14 3A (in) "Line Side Differential Inputs CML compatibl", 15 3B (in) "Line Side Differential Inputs CML compatibl", 18 4A (in) "Line Side Differential Inputs CML compatibl", 19 4B (in) "Line Side Differential Inputs CML compatibl", 21 5A (in) "Line Side Differential Inputs CML compatibl", 22 5B (in) "Line Side Differential Inputs CML compatibl", 24 6A (in) "Line Side Differential Inputs CML compatibl", 25 6B (in) "Line Side Differential Inputs CML compatibl", 27 7A (in) "Line Side Differential Inputs CML compatibl", 28 7B (in) "Line Side Differential Inputs CML compatibl", 31 EQ (in) "Equalization setting when I2C is not enabled. EQ=0 13dB and EQ=1 for 9d", 32 PRE (in) "Pre-Emphasis setting when I2C is not enabled. PRE=0 for 0 dB and PRE=1 for 6 dB", 33 7Z (out) "Switch Side Differential Outputs. VM", 34 7Y (out) "Switch Side Differential Outputs. VM", 36 6Z (out) "Switch Side Differential Outputs. VM", 37 6Y (out) "Switch Side Differential Outputs. VM", 39 5Z (out) "Switch Side Differential Outputs. VM", 40 5Y (out) "Switch Side Differential Outputs. VM", 42 4Z (out) "Switch Side Differential Outputs. VM", 43 4Y (out) "Switch Side Differential Outputs. VM", 45 SCL (in) "I2C Control interface", 46 SDA (io) "I2C Control interface", 47 ADDR1 (in) "I2C Control interface", 48 ADDR2 (in) "I2C Control interface", 50 3Z (out) "Switch Side Differential Outputs. VM", 51 3Y (out) "Switch Side Differential Outputs. VM", 53 2Z (out) "Switch Side Differential Outputs. VM", 54 2Y (out) "Switch Side Differential Outputs. VM", 56 1Z (out) "Switch Side Differential Outputs. VM", 57 1Y (out) "Switch Side Differential Outputs. VM", 59 0Z (out) "Switch Side Differential Outputs. VM", 60 0Y (out) "Switch Side Differential Outputs. VM", 62 NC "No Connect", 63 12C_EN (in) "Enables I2C control interface I2C_EN=1 for enable; When EN=0 then the PRE and EQ pins are used to set the Pre-Emphasis and Equalization settings rather than the I2C register map."
part B pins: 1 GND (power) "Ground", 2 VCC (power) "Power Supply 3.3v+/-5", 4 GND (power) "Ground", 7 VCC (power) "Power Supply 3.3v+/-5", 10 GND (power) "Ground", 13 VCC (power) "Power Supply 3.3v+/-5", 16 VBB (power) "Receiver input biasing voltage", 17 GND (power) "Ground", 20 VCC (power) "Power Supply 3.3v+/-5", 23 GND (power) "Ground", 26 VCC (power) "Power Supply 3.3v+/-5", 29 GND (power) "Ground", 30 VCC (power) "Power Supply 3.3v+/-5", 35 VCC (power) "Power Supply 3.3v+/-5", 38 GND (power) "Ground", 41 VCC (power) "Power Supply 3.3v+/-5", 44 GND (power) "Ground", 49 GND (power) "Ground", 52 VCC (power) "Power Supply 3.3v+/-5", 55 GND (power) "Ground", 58 VCC (power) "Power Supply 3.3v+/-5", 61 GND (power) "Ground", 64 VCC (power) "Power Supply 3.3v+/-5", 65 EP (power) "The ground center pad of the package must be connected to GND plane."

## SN65LVCP418PAPT
designator U?
8 Channel Gigabit Signal Conditioning Buffer, 4.25 Gbps, 3.3V, -40 to 85 degC, 64-Pin HTQFP (PAP), Green(RoHS & no Sb/Br); PartNumber: SN65LVCP418PAPT; Manufacturer: Texas Instruments; Protocols: XAUI; Speed(Max)(Gbps): 4.25; Number of Channels: 8; SupplyVoltage(Volt): 3.3; ICC(Max)(mA): 380; IN SigCon: EQ; OUT SigCon: Pre-E; Input Compatibility: CML, AC-Coupled, LVPEC; Output Compatibility: VML; ESD HBM(kV): 6; Function: Repeater, Redriver, Equalizer"; DatasheetVersion: SLLS856A; PackageVersion: revC, Aug-2003; PackageReference: PAP64-4650X4650TP; PackageDescription: 64-Pin Plastic Quad Flat Pack, 10 x 10 mm Body, 0.5 mm Pitch, Exposed Pad; Mounting Technology: Surface Mount; Eco-Plan: Green (RoHS & no Sb/Br); Code_JEDEC: MS-026; ComponentLink1Description: Datasheet; ComponentLink1URL: http://www.ti.com/general/docs/lit/getliterature.tsp?genericPartNumber=SN65LVCP418&fileType=pdf; ComponentLink2Description: Package Specification; ComponentLink2URL: http://www.ti.com/litv/pdf/mpqf071b
footprint PAP64-4650X4650TP_N (Thin QFP, 64-Leads, Body 10x10mm, Pitch 0.5mm, Thermal Pad 5x5mm, IPC Medium Density)
footprint PAP64-4650X4650TP_L (Thin QFP, 64-Leads, Body 10x10mm, Pitch 0.5mm, Thermal Pad 5x5mm, IPC High Density)
footprint PAP64-4650X4650TP_M (Thin QFP, 64-Leads, Body 10x10mm, Pitch 0.5mm, Thermal Pad 5x5mm, IPC Low Density)
part A pins: 3 RESN (in) "Configuration Reset. Resets I2C register space; Note upon device startup the RESN pin must be driven low to reset the device registers", 5 0A (in) "Line Side Differential Inputs CML compatibl", 6 0B (in) "Line Side Differential Inputs CML compatibl", 8 1A (in) "Line Side Differential Inputs CML compatibl", 9 1B (in) "Line Side Differential Inputs CML compatibl", 11 2A (in) "Line Side Differential Inputs CML compatibl", 12 2B (in) "Line Side Differential Inputs CML compatibl", 14 3A (in) "Line Side Differential Inputs CML compatibl", 15 3B (in) "Line Side Differential Inputs CML compatibl", 18 4A (in) "Line Side Differential Inputs CML compatibl", 19 4B (in) "Line Side Differential Inputs CML compatibl", 21 5A (in) "Line Side Differential Inputs CML compatibl", 22 5B (in) "Line Side Differential Inputs CML compatibl", 24 6A (in) "Line Side Differential Inputs CML compatibl", 25 6B (in) "Line Side Differential Inputs CML compatibl", 27 7A (in) "Line Side Differential Inputs CML compatibl", 28 7B (in) "Line Side Differential Inputs CML compatibl", 31 EQ (in) "Equalization setting when I2C is not enabled. EQ=0 13dB and EQ=1 for 9d", 32 PRE (in) "Pre-Emphasis setting when I2C is not enabled. PRE=0 for 0 dB and PRE=1 for 6 dB", 33 7Z (out) "Switch Side Differential Outputs. VM", 34 7Y (out) "Switch Side Differential Outputs. VM", 36 6Z (out) "Switch Side Differential Outputs. VM", 37 6Y (out) "Switch Side Differential Outputs. VM", 39 5Z (out) "Switch Side Differential Outputs. VM", 40 5Y (out) "Switch Side Differential Outputs. VM", 42 4Z (out) "Switch Side Differential Outputs. VM", 43 4Y (out) "Switch Side Differential Outputs. VM", 45 SCL (in) "I2C Control interface", 46 SDA (io) "I2C Control interface", 47 ADDR1 (in) "I2C Control interface", 48 ADDR2 (in) "I2C Control interface", 50 3Z (out) "Switch Side Differential Outputs. VM", 51 3Y (out) "Switch Side Differential Outputs. VM", 53 2Z (out) "Switch Side Differential Outputs. VM", 54 2Y (out) "Switch Side Differential Outputs. VM", 56 1Z (out) "Switch Side Differential Outputs. VM", 57 1Y (out) "Switch Side Differential Outputs. VM", 59 0Z (out) "Switch Side Differential Outputs. VM", 60 0Y (out) "Switch Side Differential Outputs. VM", 62 NC "No Connect", 63 12C_EN (in) "Enables I2C control interface I2C_EN=1 for enable; When EN=0 then the PRE and EQ pins are used to set the Pre-Emphasis and Equalization settings rather than the I2C register map."
part B pins: 1 GND (power) "Ground", 2 VCC (power) "Power Supply 3.3v+/-5", 4 GND (power) "Ground", 7 VCC (power) "Power Supply 3.3v+/-5", 10 GND (power) "Ground", 13 VCC (power) "Power Supply 3.3v+/-5", 16 VBB (power) "Receiver input biasing voltage", 17 GND (power) "Ground", 20 VCC (power) "Power Supply 3.3v+/-5", 23 GND (power) "Ground", 26 VCC (power) "Power Supply 3.3v+/-5", 29 GND (power) "Ground", 30 VCC (power) "Power Supply 3.3v+/-5", 35 VCC (power) "Power Supply 3.3v+/-5", 38 GND (power) "Ground", 41 VCC (power) "Power Supply 3.3v+/-5", 44 GND (power) "Ground", 49 GND (power) "Ground", 52 VCC (power) "Power Supply 3.3v+/-5", 55 GND (power) "Ground", 58 VCC (power) "Power Supply 3.3v+/-5", 61 GND (power) "Ground", 64 VCC (power) "Power Supply 3.3v+/-5", 65 EP (power) "The ground center pad of the package must be connected to GND plane."

## SN65LVPE501RGER
designator U?
Dual Channel x1 PCIe Redriver / Equalizer, 5 Gbps, 3.3V, -40 to 85 degC, 24-Pin VQFN (RGE), Green(RoHS & no Sb/Br); PartNumber: SN65LVPE501RGER; Manufacturer: Texas Instruments; Speed(Max)(Gbps): 5; Number of Channels: 2; SupplyVoltage(Volt): 3.3; ICC(Max)(mA): 120; IN SigCon: EQ; OUT SigCon: DE; Input Compatibility: AC-Coupled, CML; ESD HBM(kV): 3; Sleep Mode Power(mW): 7; Function: Repeater, Redriver, Equalizer"; DatasheetVersion: SLLSE30; PackageVersion: revG, Jul-2011; PackageReference: RGE24-2100X2100TP; PackageDescription: 24-Pin Plastic Quad Flatpack No-Lead, 4 x 4 mm Body, 0.5 mm Pitch; Mounting Technology: Surface Mount; Eco-Plan: Green (RoHS & no Sb/Br); Protocols: PCIe; Output Compatibility: AC-Coupled, CML; Code_JEDEC: MO-220; ComponentLink1Description: Datasheet; ComponentLink1URL: http://www.ti.com/general/docs/lit/getliterature.tsp?genericPartNumber=SN65LVPE501&fileType=pdf; ComponentLink2Description: Package Specification; ComponentLink2URL: http://www.ti.com/litv/pdf/mpqf124f
footprint RGE24-2100X2100TP (QFN, 24-Leads, Body 4x4mm, Pitch 0.5mm, Thermal Pad 2.1x2.1mm, TI Recommended)
pins: 1 VCC (power) "Positive supply should be 3.3V '+/- 10%", 2 EQ1 (in) "Selects equalization settings for CH 1 and CH 2 per Table 2. Internally tied to VCC/2", 3 DE1 (in) "Selects de-emphasis settings for CH 1 and CH 2 per Table 2. Internally tied to VCC/2", 4 OS1 (in) "Selects output amplitude for CH 1 and CH 2 per Table 2. Internally tied to VCC/2", 5 EN_RXD (in) "Sets device operation modes per Table 2. Internally pulled to VCC", 6 GND (power) "Supply ground", 7 ~{RST} (in) "Reset device, input active Low. Internally pulled to VCC", 8 RX1+ (in) "Non-inverting and inverting CML differential input for CH 1 and CH 2. These pins are tied to an internal voltage bias by dual termination resistor circuit.", 9 RX1- (in) "Non-inverting and inverting CML differential input for CH 1 and CH 2. These pins are tied to an internal voltage bias by dual termination resistor circuit.", 10 GND (power) "Supply ground", 11 TX2+ (out) "Non-inverting and inverting CML differential output for CH 1 and CH 2. These pins are internally tied to voltage bias by termination resistors.", 12 TX2- (out) "Non-inverting and inverting CML differential output for CH 1 and CH 2. These pins are internally tied to voltage bias by termination resistors.", 13 VCC (power) "Positive supply should be 3.3V '+/- 10%", 14 PS (in) "Select auto-low power save mode per Table 2. Internally pulled to GND", 15 OS2 (in) "Selects output amplitude for CH 1 and CH 2 per Table 2. Internally tied to VCC/2", 16 DE2 (in) "Selects de-emphasis settings for CH 1 and CH 2 per Table 2. Internally tied to VCC/2", 17 EQ2 (in) "Selects equalization settings for CH 1 and CH 2 per Table 2. Internally tied to VCC/2", 18 GND (power) "Supply ground", 19 RX2- (in) "Non-inverting and inverting CML differential input for CH 1 and CH 2. These pins are tied to an internal voltage bias by dual termination resistor circuit.", 20 RX2+ (in) "Non-inverting and inverting CML differential input for CH 1 and CH 2. These pins are tied to an internal voltage bias by dual termination resistor circuit.", 21 GND (power) "Supply ground", 22 TX1- (out) "Non-inverting and inverting CML differential output for CH 1 and CH 2. These pins are internally tied to voltage bias by termination resistors.", 23 TX1+ (out) "Non-inverting and inverting CML differential output for CH 1 and CH 2. These pins are internally tied to voltage bias by termination resistors.", 24 RSVD (power) "Reserved for factory test. Must be connected to GND", 25 EP "Exposed Thermal Pad"

## SN65LVPE501RGET
designator U?
Dual Channel x1 PCIe Redriver / Equalizer, 5 Gbps, 3.3V, -40 to 85 degC, 24-Pin VQFN (RGE), Green(RoHS & no Sb/Br); PartNumber: SN65LVPE501RGET; Manufacturer: Texas Instruments; Speed(Max)(Gbps): 5; Number of Channels: 2; SupplyVoltage(Volt): 3.3; ICC(Max)(mA): 120; IN SigCon: EQ; OUT SigCon: DE; Input Compatibility: AC-Coupled, CML; ESD HBM(kV): 3; Sleep Mode Power(mW): 7; Function: Repeater, Redriver, Equalizer"; DatasheetVersion: SLLSE30; PackageVersion: revG, Jul-2011; PackageReference: RGE24-2100X2100TP; PackageDescription: 24-Pin Plastic Quad Flatpack No-Lead, 4 x 4 mm Body, 0.5 mm Pitch; Mounting Technology: Surface Mount; Eco-Plan: Green (RoHS & no Sb/Br); Protocols: PCIe; Output Compatibility: AC-Coupled, CML; Code_JEDEC: MO-220; ComponentLink1Description: Datasheet; ComponentLink1URL: http://www.ti.com/general/docs/lit/getliterature.tsp?genericPartNumber=SN65LVPE501&fileType=pdf; ComponentLink2Description: Package Specification; ComponentLink2URL: http://www.ti.com/litv/pdf/mpqf124f
footprint RGE24-2100X2100TP (QFN, 24-Leads, Body 4x4mm, Pitch 0.5mm, Thermal Pad 2.1x2.1mm, TI Recommended)
pins: 1 VCC (power) "Positive supply should be 3.3V '+/- 10%", 2 EQ1 (in) "Selects equalization settings for CH 1 and CH 2 per Table 2. Internally tied to VCC/2", 3 DE1 (in) "Selects de-emphasis settings for CH 1 and CH 2 per Table 2. Internally tied to VCC/2", 4 OS1 (in) "Selects output amplitude for CH 1 and CH 2 per Table 2. Internally tied to VCC/2", 5 EN_RXD (in) "Sets device operation modes per Table 2. Internally pulled to VCC", 6 GND (power) "Supply ground", 7 ~{RST} (in) "Reset device, input active Low. Internally pulled to VCC", 8 RX1+ (in) "Non-inverting and inverting CML differential input for CH 1 and CH 2. These pins are tied to an internal voltage bias by dual termination resistor circuit.", 9 RX1- (in) "Non-inverting and inverting CML differential input for CH 1 and CH 2. These pins are tied to an internal voltage bias by dual termination resistor circuit.", 10 GND (power) "Supply ground", 11 TX2+ (out) "Non-inverting and inverting CML differential output for CH 1 and CH 2. These pins are internally tied to voltage bias by termination resistors.", 12 TX2- (out) "Non-inverting and inverting CML differential output for CH 1 and CH 2. These pins are internally tied to voltage bias by termination resistors.", 13 VCC (power) "Positive supply should be 3.3V '+/- 10%", 14 PS (in) "Select auto-low power save mode per Table 2. Internally pulled to GND", 15 OS2 (in) "Selects output amplitude for CH 1 and CH 2 per Table 2. Internally tied to VCC/2", 16 DE2 (in) "Selects de-emphasis settings for CH 1 and CH 2 per Table 2. Internally tied to VCC/2", 17 EQ2 (in) "Selects equalization settings for CH 1 and CH 2 per Table 2. Internally tied to VCC/2", 18 GND (power) "Supply ground", 19 RX2- (in) "Non-inverting and inverting CML differential input for CH 1 and CH 2. These pins are tied to an internal voltage bias by dual termination resistor circuit.", 20 RX2+ (in) "Non-inverting and inverting CML differential input for CH 1 and CH 2. These pins are tied to an internal voltage bias by dual termination resistor circuit.", 21 GND (power) "Supply ground", 22 TX1- (out) "Non-inverting and inverting CML differential output for CH 1 and CH 2. These pins are internally tied to voltage bias by termination resistors.", 23 TX1+ (out) "Non-inverting and inverting CML differential output for CH 1 and CH 2. These pins are internally tied to voltage bias by termination resistors.", 24 RSVD (power) "Reserved for factory test. Must be connected to GND", 25 EP "Exposed Thermal Pad"

## SN65LVPE502CPRGER
designator U?
Dual Channel USB3.0 Redriver / Equalizer, 5 Gbps, 3.3V, 0 to 85 degC, 24-Pin VQFN (RGE), Green (RoHS & no Sb/Br); PartNumber: SN65LVPE502CPRGER; Manufacturer: Texas Instruments; Speed(Max)(Gbps): 5; Number of Channels: 2; SupplyVoltage(Volt): 3.3; ICC(Max)(mA): 120; IN SigCon: EQ; OUT SigCon: DE; Input Compatibility: AC-Coupled, CML; Function: Repeater, Redriver, Equalizer"; DatasheetVersion: SLLSE79B; PackageVersion: revG, Jul-2011; PackageReference: RGE24-2100X2100TP; PackageDescription: 24-Pin Plastic Quad Flatpack No-Lead, 4 x 4 mm Body, 0.5 mm Pitch; Mounting Technology: Surface Mount; Eco-Plan: Green (RoHS & no Sb/Br); Protocols: USB 3.0; Output Compatibility: AC-Coupled, CML; ESD HBM(kV): 5; Sleep Mode Power(mW): 5; Code_JEDEC: MO-220; ComponentLink1Description: Datasheet; ComponentLink1URL: http://www.ti.com/general/docs/lit/getliterature.tsp?genericPartNumber=SN65LVPE502CP&fileType=pdf; ComponentLink2Description: Package Specification; ComponentLink2URL: http://www.ti.com/litv/pdf/mpqf124f
footprint RGE24-2100X2100TP (QFN, 24-Leads, Body 4x4mm, Pitch 0.5mm, Thermal Pad 2.1x2.1mm, TI Recommended)
pins: 1 VCC (power) "Positive supply should be 3.3V +/- 10%", 2 EQ1 (in) "Selects equalization settings for CH 1 and CH 2 per Table 2. Internally tied to Vcc/2", 3 DE1 (in) "Selects de-emphasis settings for CH 1 and CH 2 per Table 2. Internally tied to Vcc/2", 4 OS1 (in) "Selects output amplitude for CH 1 and CH 2 per Table 2. Internally tied to Vcc/2", 5 EN_RXD (in) "Sets device operation modes per Table 2. Internally pulled to VCC", 6 GND (power) "Supply ground", 7 NC "Pads are not internally connected", 8 RX1- (in) "Non-inverting and inverting CML differential input for CH 1 and CH 2. These pins are tied to an internal voltage bias by dual termination resistor circuit.", 9 RX1+ (in) "Non-inverting and inverting CML differential input for CH 1 and CH 2. These pins are tied to an internal voltage bias by dual termination resistor circuit.", 10 GND (power) "Supply ground", 11 TX2- (out) "Non-inverting and inverting VML differential output for CH 1 and CH 2. These pins are internally tied to voltage bias by termination resistors.", 12 TX2+ (out) "Non-inverting and inverting VML differential output for CH 1 and CH 2. These pins are internally tied to voltage bias by termination resistors.", 13 VCC (power) "Positive supply should be 3.3V +/- 10%", 14 RSVD "RSVD, internally pulled to GND. Can be left as No-connect.", 15 OS2 (in) "Selects output amplitude for CH 1 and CH 2 per Table 2. Internally tied to Vcc/2", 16 DE2 (in) "Selects de-emphasis settings for CH 1 and CH 2 per Table 2. Internally tied to Vcc/2", 17 EQ2 (in) "Selects equalization settings for CH 1 and CH 2 per Table 2. Internally tied to Vcc/2", 18 GND (power) "Supply ground", 19 RX2+ (in) "Non-inverting and inverting CML differential input for CH 1 and CH 2. These pins are tied to an internal voltage bias by dual termination resistor circuit.", 20 RX2- (in) "Non-inverting and inverting CML differential input for CH 1 and CH 2. These pins are tied to an internal voltage bias by dual termination resistor circuit.", 21 GND (power) "Supply ground", 22 TX1+ (out) "Non-inverting and inverting VML differential output for CH 1 and CH 2. These pins are internally tied to voltage bias by termination resistors.", 23 TX1- (out) "Non-inverting and inverting VML differential output for CH 1 and CH 2. These pins are internally tied to voltage bias by termination resistors.", 24 NC "Pads are not internally connected", 25 EP (power) "Thermal Pad  (must be soldered to GND plane)"